# EAGLE library part BM06B-SRSS (library con-JST SH)
JST SH series header 1.00mm pitch disconnectable crimp style connectors, vertical (side entry type), 6 pins
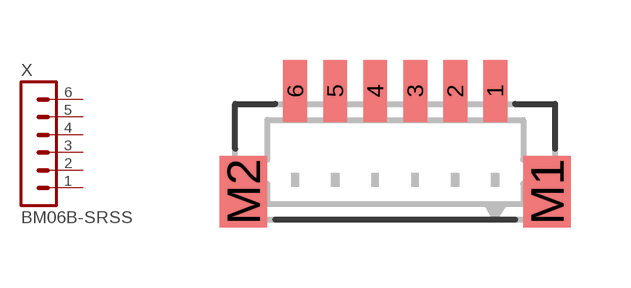
[diagram p0: symbol with the pads of BM06B-SRSS-TB; footprint BM06B-SRSS-TB]

Designator prefix X

## BM06B-SRSS-TB  [BM06B-SRSS-TB]
1  1  pas
2  2  pas
3  3  pas
4  4  pas
5  5  pas
6  6  pas

## Footprint BM06B-SRSS-TB (pad centres in mm)
JST SH series header 1.00mm pitch disconnectable crimp style connectors, SMT vertical (top entry type), 6 pins
smd 0.6 x 1.55: 1 2.5,0; 2 1.5,0; 3 0.5,0; 4 -0.5,0; 5 -1.5,0; 6 -2.5,0
smd 1.2 x 1.8: M1 3.8,-2.525; M2 -3.8,-2.525